# Altium schematic symbol library Switches.SchLib: 3 symbols
Pins are listed as number, name and electrical type; pins without a type are passive.

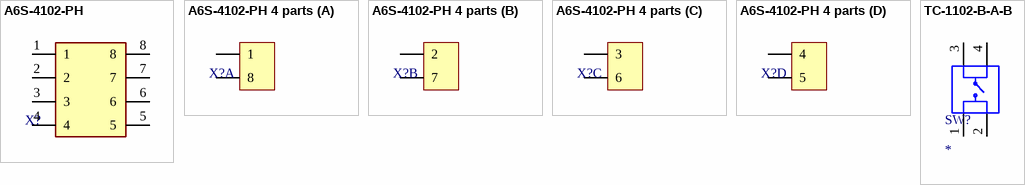
[diagram p0: symbols A6S-4102-PH to TC-1102-B-A-B]

## A6S-4102-PH
designator X?, comment Usar en reemplazo de headers de pulsos  (value not drawn)
DIP Switches / SIP Switches Dipswitch Tape & Reel; Manufacturer: Omron Electronics; Manufacturer Part Number: A6S-4102-PH; Category: Dip switch; Datasheet: https://ar.mouser.com/ProductDetail/Omron-Electronics/A6S-4102-PH?qs=ZP3UR5XsUoe%2FjAeze1ZGqw%3D%3D
footprint A6S-4102-PH
pins: 1, 2, 3, 4, 5, 6, 7, 8

## A6S-4102-PH 4 parts
designator X?, comment Usar en reemplazo de headers de pulsos  (value not drawn)
DIP Switches / SIP Switches Dipswitch Tape & Reel; Manufacturer: Omron Electronics; Manufacturer Part Number: A6S-4102-PH; Category: Dip switch; Datasheet: https://ar.mouser.com/ProductDetail/Omron-Electronics/A6S-4102-PH?qs=ZP3UR5XsUoe%2FjAeze1ZGqw%3D%3D
footprint A6S-4102-PH
part A pins: 1, 8
part B pins: 2, 7
part C pins: 3, 6
part D pins: 4, 5

## TC-1102-B-A-B
designator SW?
Switch tactile 6x6mm true hole.; Manufacturer: XKB Connectivity; Manufacturer Part Number: TC-1102-B-A-B; Category: Mechanical Switch; Datasheet: https://datasheet.lcsc.com/lcsc/2110111230_XKB-Connectivity-TC-1102-B-A-B_C480281.pdf
footprint TC-1102-B-A-B (Tactile 6x6mm true hole)
pins: 1, 2, 3 g, 4